# Altium schematic symbol library SMD Capacitors 1210.SchLib: 4 symbols
Pins are listed as number, name and electrical type; pins without a type are passive.

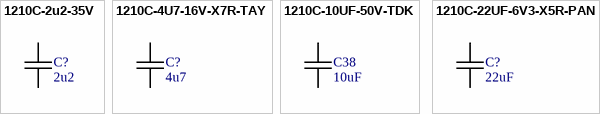
[diagram p0: symbols 1210C-2u2-35V to 1210C-22UF-6V3-X5R-PAN]

## 1210C-2u2-35V
designator C?, comment 2u2
GENERIC CAPACITOR NON POLARISED 1210; Manufacturer: Panasonic - ECG; Manufacturer Part Number: ECJ-4YB0J226M; Reel: C25; Description: CAP 22UF 6.3V CERAMIC 1210 X5R; Supplier 1: Digi-Key; Supplier Part Number 1: 587-2255-2-ND
footprint 1210C-GENERIC
pins: 1, 2

## 1210C-4U7-16V-X7R-TAY
designator C?, comment 4u7
GENERIC CAPACITOR NON POLARISED 1210; Manufacturer: Taiyo Yuden; Manufacturer Part Number: EMK325B7475KN-T; Reel: C38; Description: CAP CER 4.7UF 16V X7R 1210; Supplier 1: Digi-Key; Supplier Part Number 1: 587-1392-2-ND
footprint 1210C-GENERIC
pins: 1, 2

## 1210C-10UF-50V-TDK
designator C38, comment 10uF
GENERIC CAPACITOR NON POLARISED 1210; REEL: C87; Supplier 1: Digi-Key; Supplier Part Number 1: 445-4537-2-ND
footprint 1210C-GENERIC
pins: 1, 2

## 1210C-22UF-6V3-X5R-PAN
designator C?, comment 22uF
GENERIC CAPACITOR NON POLARISED 1210; Manufacturer: Panasonic - ECG; Manufacturer Part Number: ECJ-4YB0J226M; Reel: C25; Description: CAP 22UF 6.3V CERAMIC 1210 X5R; Supplier 1: Digi-Key; Supplier Part Number 1: PCC2179TR-ND
footprint 1210C-GENERIC
pins: 1, 2